# Altium footprint library JEILI_DEV_BOARD.PcbLib: 38 footprints (part 1 of 3)
Each footprint in its own frame and in the unit in brackets; x right, y up, seen from the top. Pads: shape width x height; smd on the part's side, far side on the other; paste and mask are expansions set on the pad; w line width, h text height; cw(c..) or ccw(c..) is an arc to the next point about the centre after c.
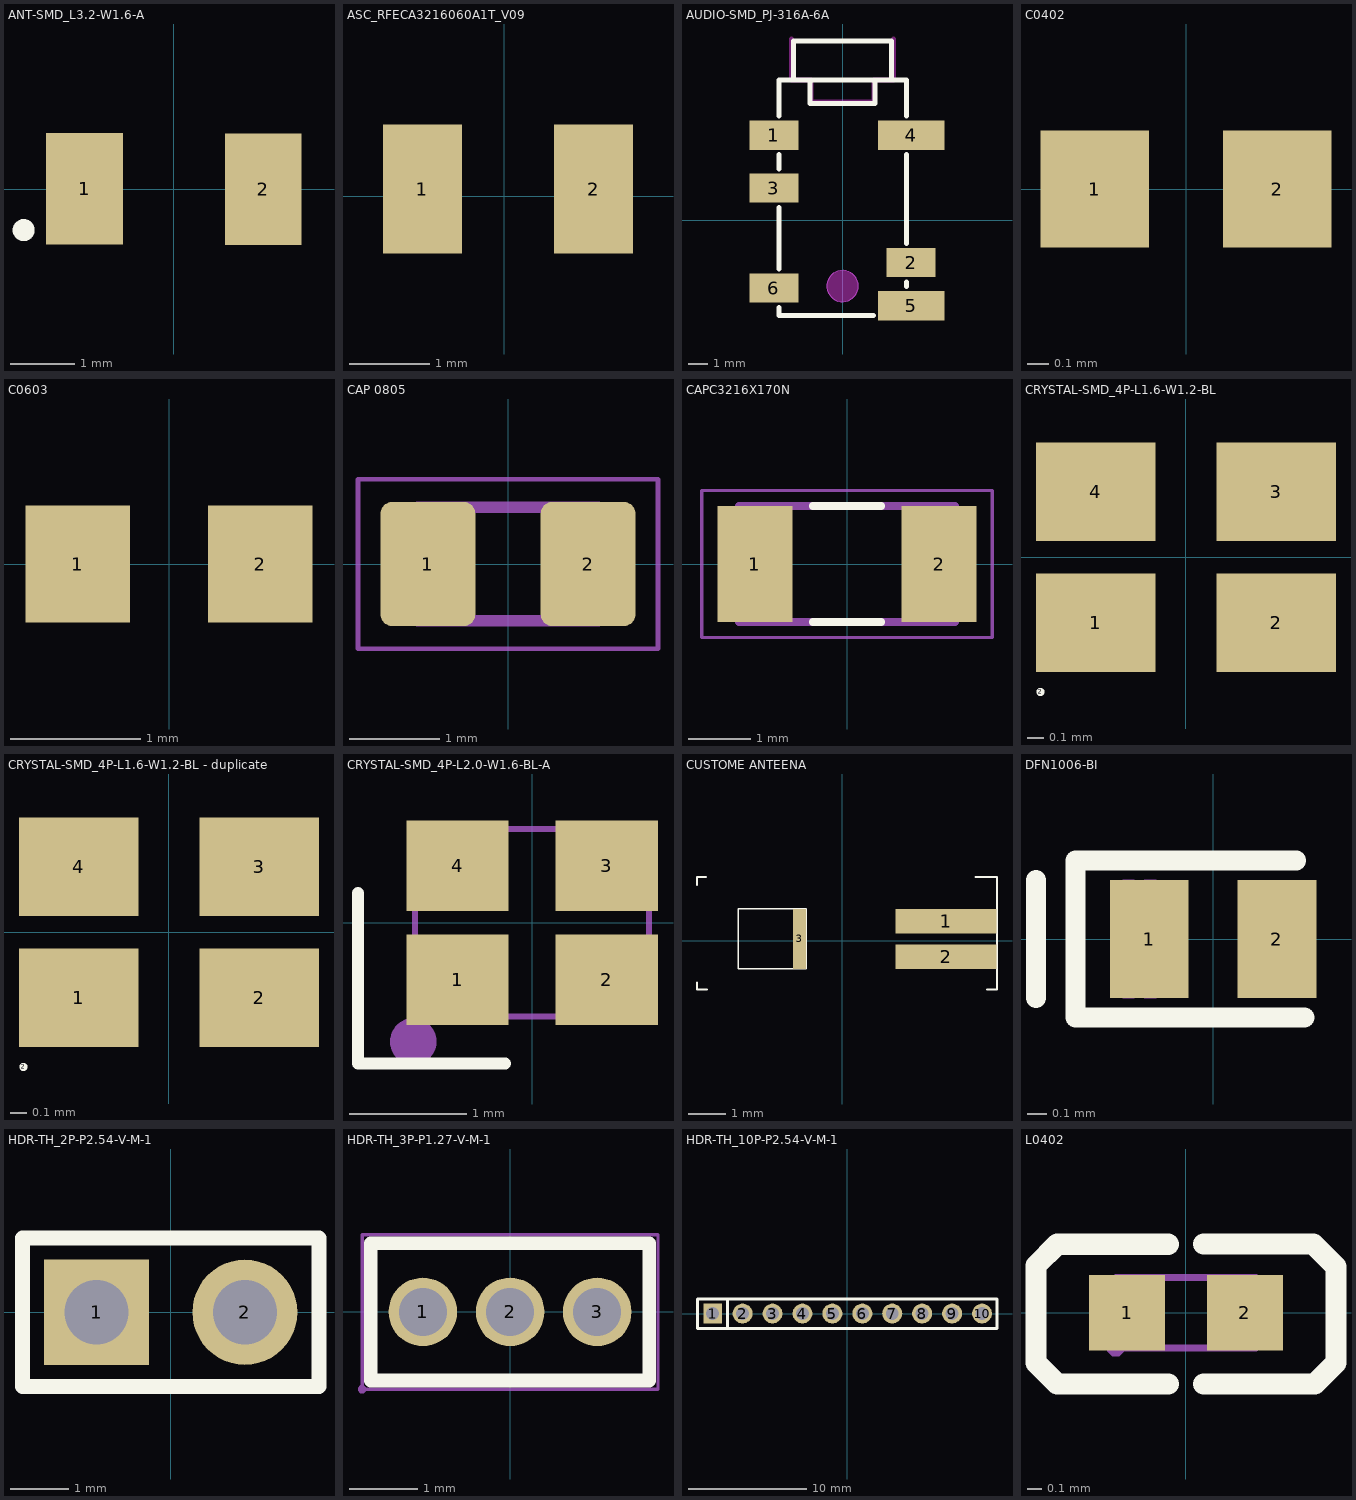
[diagram p0: the footprints below, top view; thin cyan lines are the x and y axes]

## ANT-SMD_L3.2-W1.6-A [mm]
pads (2):
  rect 1.2x1.75 smd: 1(-1.4,0.003) 2(1.4,-0.003)
Top Overlay:
  lines w0.2: -2.28,-0.645 cw(c-2.353,-0.645) -2.28,-0.643
3D body "ANT3216LL00R2400A--3DModel-STEP-269445.STEP": height 1.35, standoff 0, extent -1.582,-0.809 1.617,0.791

## ASC_RFECA3216060A1T_V09 [mm]
pads (2):
  rect 0.984x1.6 smd paste-100 mask+0.051: 1(-1.021,0.091) 2(1.109,0.091)

## AUDIO-SMD_PJ-316A-6A [mm]
pads (6):
  rect 2.5x1.5 smd: 1(-3.5,4.35) 2(3.5,-2.15) 3(-3.5,1.65) 6(-3.5,-3.45)
  rect 3.4x1.5 smd: 4(3.5,4.35) 5(3.5,-4.35)
Top Overlay:
  lines w0.254: -3.25,-4.431 -3.25,-4.85 1.569,-4.85 ; -3.25,-2.469 -3.25,0.669 ; -3.25,2.631 -3.25,3.369 ; -3.25,5.331 -3.25,7.15 3.25,7.15 3.25,5.331 ; -2.5,7.15 -2.499,8.356 -2.5,9.15 2.5,9.15 2.5,7.15 ; -1.65,7.15 -1.65,5.95 1.65,5.95 1.65,7.15 ; 3.25,-3.369 3.25,-3.131 ; 3.25,-1.169 3.25,3.369
Keep-Out Layer:
  board cut-out: 0.8,-3.35 0.8,-3.456 0.745,-3.659 0.64,-3.842 0.491,-3.991 0.309,-4.096 0.105,-4.15 -0.105,-4.15 -0.309,-4.096 -0.491,-3.991 -0.64,-3.842 -0.746,-3.659 -0.8,-3.456 -0.8,-3.35 -0.8,-3.245 -0.746,-3.042 -0.64,-2.859 -0.491,-2.71 -0.309,-2.605 -0.105,-2.55 0.105,-2.55 0.309,-2.605 0.491,-2.71 0.64,-2.859 0.745,-3.042 0.8,-3.245
Keep-Out Layer:
  circle w0.025: c0,-3.35 r0.8
  region: 0.8,-3.35 0.8,-3.456 0.745,-3.659 0.64,-3.842 0.491,-3.991 0.309,-4.096 0.105,-4.15 -0.105,-4.15 -0.309,-4.096 -0.491,-3.991 -0.64,-3.842 -0.746,-3.659 -0.8,-3.456 -0.8,-3.35 -0.8,-3.245 -0.746,-3.042 -0.64,-2.859 -0.491,-2.71 -0.309,-2.605 -0.105,-2.55 0.105,-2.55 0.309,-2.605 0.491,-2.71 0.64,-2.859 0.745,-3.042 0.8,-3.245
  lines w0.254: -2.6,7.15 -1.6,7.15 ; -2.6,7.15 -2.6,9.25 -2.6,7.15 ; -2.6,7.15 -1.6,7.15 ; -1.6,6.05 1.6,6.05 ; -1.6,6.05 -1.6,7.15 ; -1.6,6.05 1.6,6.05 ; -1.6,6.05 -1.6,7.15 ; 1.6,6.05 1.6,7.15 ; 1.6,6.05 1.6,7.15 ; 1.6,7.15 2.6,7.15 ; 1.6,7.15 2.6,7.15 ; 2.6,7.15 2.6,9.25 2.6,7.15
Mechanical 1:
  circle w0.025: c0,-3.35 r0.8
3D body "35RASMT4BHNTRX--3DModel-STEP-269445.STEP": height 5.05, standoff -0.94, extent -4.496,-8.16 4.495,10.839

## C0402 [mm]
pads (2):
  rect 0.5x0.54 smd: 1(-0.42,0) 2(0.42,0)
3D body "C0402C200J5GACTU.STEP": height 0.48, standoff -0.02, extent -0.5,-0.273 0.5,0.277

## C0603 [mm]
pads (2):
  rect 0.8x0.9 smd: 1(-0.7,0) 2(0.7,0)
3D body "0603YC104KAZ2A.STEP": height 0.78, standoff -0.03, extent -0.767,-0.447 0.833,0.453

## CAP 0805 [mm]
pads (2):
  rrect25% 1.05x1.38 smd paste+0 mask+0.102: 1(-0.888,0) 2(0.888,0)
Mechanical 13:
  lines w0.127: -1,-0.63 1,-0.63 1,0.63 -1,0.63 -1,-0.63
Mechanical 15:
  lines w0.05: -1.663,-0.94 1.663,-0.94 1.663,0.94 -1.663,0.94 -1.663,-0.94
3D body "step_temp.STEP": height 1.35, standoff 0, extent -1,-0.625 1,0.625

## CAPC3216X170N [mm]
pads (2):
  rect 1.21x1.86 smd paste+0 mask+0.102: 1(-1.477,0) 2(1.477,0)
Top Overlay:
  lines w0.127: -0.55,-0.93 0.55,-0.93 ; -0.55,0.93 0.55,0.93
Mechanical 13:
  lines w0.127: -1.73,-0.93 1.73,-0.93 1.73,0.93 -1.73,0.93 -1.73,-0.93
Mechanical 15:
  lines w0.05: -2.331,-1.181 2.331,-1.181 2.331,1.181 -2.331,1.181 -2.331,-1.181
3D body "step_temp.STEP": height 1.7, standoff 0, extent -1.6,-0.8 1.6,0.8

## CRYSTAL-SMD_4P-L1.6-W1.2-BL [mm]
pads (5):
  rect 0.73x0.6 smd paste+0 mask+0.05: 1(-0.55,-0.4) 2(0.55,-0.4) 3(0.55,0.4) 4(-0.55,0.4)
  round 0.051 on Top Overlay: 2(-0.888,-0.821)
Mechanical 6:
  circle w0.2: c-0.6,-0.45 r0.1
3D body "S22505T-24.000-X-R.STEP": height 0.95, standoff 0, extent -1.306,-1.036 1.194,0.964

## CRYSTAL-SMD_4P-L1.6-W1.2-BL - duplicate [mm]
pads (5):
  rect 0.73x0.6 smd paste+0 mask+0.05: 1(-0.55,-0.4) 2(0.55,-0.4) 3(0.55,0.4) 4(-0.55,0.4)
  round 0.051 on Top Overlay: 2(-0.888,-0.821)
Mechanical 6:
  circle w0.2: c-0.6,-0.45 r0.1
3D body: height 0.4, standoff 0, extent -1.05,-0.731 1.021,0.731

## CRYSTAL-SMD_4P-L2.0-W1.6-BL-A [mm]
pads (4):
  rect 0.875x0.775 smd: 1(-0.638,-0.488) 2(0.638,-0.488) 3(0.638,0.488) 4(-0.638,0.488)
Top Overlay:
  lines w0.1: -1.488,0.254 -1.488,-1.204 -0.231,-1.204
Mechanical 6:
  circle w0.2: c-1.016,-1.016 r0.1
Mechanical 15:
  region: -0.94,-0.8 -0.94,-0.825 -0.975,-0.86 -1.025,-0.86 -1.06,-0.825 -1.06,-0.8 -1.06,-0.775 -1.025,-0.74 -0.975,-0.74 -0.94,-0.775
  region: -1,-0.225 -0.325,-0.225 -0.325,-0.8 -1,-0.8
  region: 0.325,-0.225 1,-0.225 1,-0.8 0.325,-0.8
  region: 0.325,0.8 1,0.8 1,0.225 0.325,0.225
  region: -1,0.8 -0.325,0.8 -0.325,0.225 -1,0.225
  lines w0.051: -1,-0.8 -1,0.8 1,0.8 1,-0.8 -1,-0.8
3D body "S22505T-24.000-X-R.STEP": height 0.95, standoff 0, extent -1.222,-1.009 1.278,0.991

## CUSTOME ANTEENA [mm]
pads (3):
  rect 2.7x0.65 smd paste-100 mask+0.051: 1(2.769,0.515) 2(2.769,-0.434)
  rect 0.35x1.6 smd paste-100 mask+0.051: 3(-1.139,0.042)
Top Overlay:
  lines w0.05: -3.872,-1.209 -3.872,-1.111 -3.872,-1.306 -3.599,-1.306 ; -3.627,1.694 -3.872,1.694 ; 3.557,1.694 4.121,1.694 ; 3.77,1.694 4.122,1.694 4.121,1.694 ; 3.861,-1.306 4.126,-1.306 4.126,-1.152 ; -3.872,1.694 -3.872,1.482 -3.872,1.694 ; 4.121,1.694 4.126,1.694 4.126,1.357 4.126,-1.152 ; 4.121,1.694 4.121,1.694 ; 4.126,-1.152 4.126,-1.152 ; -2.771,-0.753 -0.959,-0.753 -0.959,0.847 -2.771,0.847 -2.771,-0.753 ; 4.121,-1.306 4.122,-1.306 4.121,-1.306

## DFN1006-BI [mm]
pads (2):
  rect 0.4x0.6 smd: 1(-0.325,0) 2(0.325,0)
Top Overlay:
  lines w0.102: -0.9,-0.3 -0.9,0.3 ; 0.423,0.4 -0.6,0.4 -0.7,0.4 -0.7,-0.4 0.465,-0.4
Mechanical 6:
  region: -0.35,0.3 -0.29,0.3 -0.29,-0.3 -0.35,-0.3
  region: -0.4,0.3 -0.4,-0.3 -0.46,-0.3 -0.46,0.3

## HDR-TH_2P-P2.54-V-M-1 [mm]
pads (2):
  rect 1.8x1.8 hole 1.1: 1(-1.27,0)
  round 1.8 hole 1.1: 2(1.27,0)
Top Overlay:
  lines w0.254: -2.54,-1.27 -2.54,1.27 2.54,1.27 2.54,-1.27 -2.54,-1.27
Mechanical 15:
  region: 0.95,0.32 1.59,0.32 1.59,-0.32 0.95,-0.32
  region: -1.59,0.32 -0.95,0.32 -0.95,-0.32 -1.59,-0.32
  region: -2.48,-1.27 -2.48,-1.295 -2.515,-1.33 -2.565,-1.33 -2.6,-1.295 -2.6,-1.27 -2.6,-1.245 -2.565,-1.21 -2.515,-1.21 -2.48,-1.245
  lines w0.051: -2.54,-1.27 2.54,-1.27 2.54,1.27 -2.54,1.27 -2.54,-1.27
3D body "77311-102-02LF--3DModel-STEP-510211.STEP": height 8.38, standoff -3.42, extent -2.34,-1.332 2.34,1.078

## HDR-TH_3P-P1.27-V-M-1 [mm]
pads (3):
  round 1 hole 0.7: 1(-1.27,0) 2(0,0) 3(1.27,0)
Top Overlay:
  lines w0.2: -2.03,-1 2.03,-1 2.03,1 -2.03,1 -2.03,-1
Mechanical 15:
  region: -2.097,-1.127 -2.097,-1.152 -2.132,-1.187 -2.182,-1.187 -2.217,-1.152 -2.217,-1.127 -2.217,-1.102 -2.182,-1.067 -2.132,-1.067 -2.097,-1.102
  region: 1.52,0 1.52,-0.05 1.482,-0.142 1.412,-0.212 1.32,-0.25 1.22,-0.25 1.128,-0.212 1.058,-0.142 1.02,-0.05 1.02,0 1.02,0.05 1.058,0.142 1.128,0.212 1.22,0.25 1.32,0.25 1.412,0.212 1.482,0.142 1.52,0.05
  region: 0.25,0 0.25,-0.05 0.212,-0.142 0.142,-0.212 0.05,-0.25 -0.05,-0.25 -0.142,-0.212 -0.212,-0.142 -0.25,-0.05 -0.25,0 -0.25,0.05 -0.212,0.142 -0.142,0.212 -0.05,0.25 0.05,0.25 0.142,0.212 0.212,0.142 0.25,0.05
  region: -1.02,0 -1.02,-0.05 -1.058,-0.142 -1.128,-0.212 -1.22,-0.25 -1.32,-0.25 -1.412,-0.212 -1.482,-0.142 -1.52,-0.05 -1.52,0 -1.52,0.05 -1.482,0.142 -1.412,0.212 -1.32,0.25 -1.22,0.25 -1.128,0.212 -1.058,0.142 -1.02,0.05
  lines w0.051: -2.157,-1.127 -2.157,1.127 2.157,1.127 2.157,-1.127 -2.157,-1.127
3D body "M50-3530342--3DModel-STEP-56544.STEP": height 4.2, standoff -2.5, extent -1.935,-1.042 1.875,1.058

## HDR-TH_10P-P2.54-V-M-1 [mm]
pads (10):
  rect 1.575x1.7 hole 1.1: 1(-11.43,0)
  round 1.7 hole 1.1: 2(-8.89,0) 3(-6.35,0) 4(-3.81,0) 5(-1.27,0) 6(1.27,0) 7(3.81,0) 8(6.35,0) 9(8.89,0) 10(11.43,0)
Top Overlay:
  lines w0.254: -10.16,-1.25 -10.16,1.25 ; -12.7,-1.25 -12.7,1.25 12.7,1.25 12.7,-1.25 -12.7,-1.25
Mechanical 15:
  region: 11.11,0.32 11.75,0.32 11.75,-0.32 11.11,-0.32
  region: 8.57,0.32 9.21,0.32 9.21,-0.32 8.57,-0.32
  region: 6.03,0.32 6.67,0.32 6.67,-0.32 6.03,-0.32
  region: 3.49,0.32 4.13,0.32 4.13,-0.32 3.49,-0.32
  region: 0.95,0.32 1.59,0.32 1.59,-0.32 0.95,-0.32
  region: -1.59,0.32 -0.95,0.32 -0.95,-0.32 -1.59,-0.32
  region: -4.13,0.32 -3.49,0.32 -3.49,-0.32 -4.13,-0.32
  region: -6.67,0.32 -6.03,0.32 -6.03,-0.32 -6.67,-0.32
  region: -9.21,0.32 -8.57,0.32 -8.57,-0.32 -9.21,-0.32
  region: -11.75,0.32 -11.11,0.32 -11.11,-0.32 -11.75,-0.32
  region: -12.64,-1.27 -12.64,-1.295 -12.675,-1.33 -12.725,-1.33 -12.76,-1.295 -12.76,-1.27 -12.76,-1.245 -12.725,-1.21 -12.675,-1.21 -12.64,-1.245
  lines w0.051: -12.7,-1.25 12.7,-1.25 12.7,1.25 -12.7,1.25 -12.7,-1.25
3D body "HTSW-110-14-LM-S.stp": height 10.67, standoff -2.79, extent -12.7,-1.143 12.7,1.346

## L0402 [mm]
pads (2):
  rect 0.54x0.54 smd: 1(-0.42,0) 2(0.42,0)
Top Overlay:
  lines w0.152: -0.127,-0.508 -0.917,-0.508 -1.069,-0.356 -1.069,0.337 -0.917,0.489 -0.127,0.489 ; 0.127,-0.508 0.917,-0.508 1.069,-0.356 1.069,0.328 0.907,0.49 0.127,0.49
Mechanical 15:
  region: -0.44,-0.25 -0.44,-0.275 -0.475,-0.31 -0.525,-0.31 -0.56,-0.275 -0.56,-0.25 -0.56,-0.225 -0.525,-0.19 -0.475,-0.19 -0.44,-0.225
  region: -0.5,-0.25 -0.5,0.25 -0.25,0.25 -0.25,-0.25
  region: 0.5,-0.25 0.5,0.25 0.25,0.25 0.25,-0.25
  lines w0.051: -0.5,-0.25 -0.5,0.25 0.5,0.25 0.5,-0.25 -0.5,-0.25